# Altium schematic symbol library A98093-ND.SchLib: 1 symbol
Pins are listed as number, name and electrical type; pins without a type are passive.

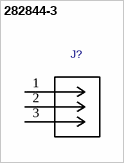
[diagram p0: symbol 282844-3]

## 282844-3
designator J?  (value not drawn)
C: Copyright (C) 2015 Accelerated Designs. All rights reserved; Vendor: TE Connectivity; Built_By: EMA_UL_Team; Value: 282844-3; Manufacturer_Part_Number: 282844-3; Copyright: Copyright (C) 2016 Accelerated Designs. All rights reserved
footprint CONN_282844-3
pins: 1, 2, 3
2 alternate drawings of the same symbol